# EAGLE library part EFM32G200F64-QFN32 (library EFM32G200F64-QFN32)
The EFM32G offers unmatched performance and ultra low power consumption in both active and sleep modes. EFM32G devices consume as little as 0.6 μA in Stop mode and 180 μA/MHz in Run mode. It also features autonomous peripherals, high overall chip and analog integration, and the performance of the industry standard 32-bit ARM Cortex-M3 processor, making it perfect for battery-powered systems and systems with high-performance, low-energy requirements. Check availability <https://pricing.snapeda.com/parts/EFM32G200F64-QFN32/Silicon%20Labs/view-part?ref=eda>
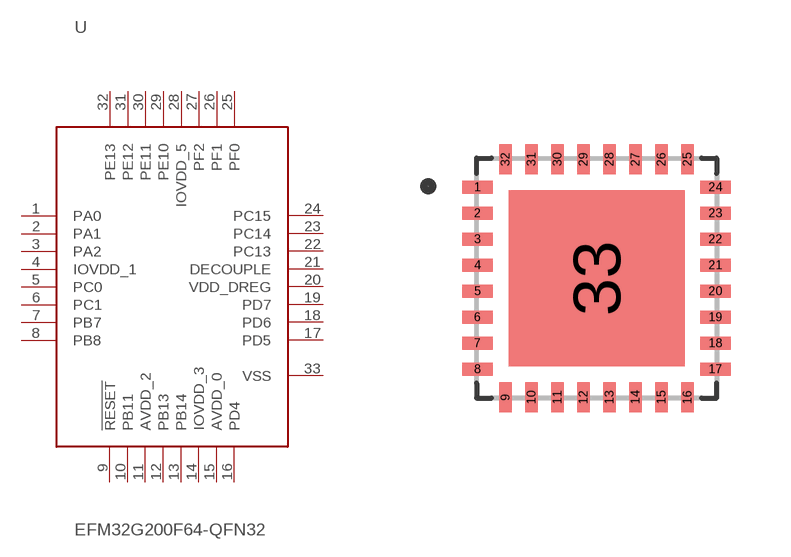
[diagram p0: symbol with the pads of QFN65P600X600X90-33N; footprint QFN65P600X600X90-33N]

Designator prefix U

## EFM32G200F64-QFN32 (AVAILABILITY: In Stock; CHECK_PRICES: https://www.snapeda.com/parts/EFM32G200F64-QFN32/Silicon+Labs/view-part/?ref=eda; DESCRIPTION: ARM® Cortex®-M3 series Microcontroller IC 32-Bit Single-Core 32MHz 64KB (64K x 8) FLASH 32-QFN (6x6); MF: Silicon Labs; MP: EFM32G200F64-QFN32; PACKAGE: QFN-32 Silicon Labs; PRICE: None; SNAPEDA_LINK: https://www.snapeda.com/parts/EFM32G200F64-QFN32/Silicon+Labs/view-part/?ref=snap)  [QFN65P600X600X90-33N]
1  PA0
2  PA1
3  PA2
4  IOVDD_1  pwr
5  PC0
6  PC1
7  PB7
8  PB8
9  !RESET  in
10  PB11
11  AVDD_2  pwr
12  PB13
13  PB14
14  IOVDD_3  pwr
15  AVDD_0  pwr
16  PD4
17  PD5
18  PD6
19  PD7
20  VDD_DREG  pwr
21  DECOUPLE  out
22  PC13
23  PC14
24  PC15
25  PF0
26  PF1
27  PF2
28  IOVDD_5  pwr
29  PE10
30  PE11
31  PE12
32  PE13
33  VSS  pwr

## Footprint QFN65P600X600X90-33N (pad centres in mm)
smd 0.76 x 0.32: 1 -2.975,2.275; 2 -2.975,1.625; 3 -2.975,0.975; 4 -2.975,0.325; 5 -2.975,-0.325; 6 -2.975,-0.975; 7 -2.975,-1.625; 8 -2.975,-2.275; 17 2.975,-2.275; 18 2.975,-1.625; 19 2.975,-0.975; 20 2.975,-0.325; 21 2.975,0.325; 22 2.975,0.975; 23 2.975,1.625; 24 2.975,2.275
smd 0.32 x 0.76: 9 -2.275,-2.975; 10 -1.625,-2.975; 11 -0.975,-2.975; 12 -0.325,-2.975; 13 0.325,-2.975; 14 0.975,-2.975; 15 1.625,-2.975; 16 2.275,-2.975; 25 2.275,2.975; 26 1.625,2.975; 27 0.975,2.975; 28 0.325,2.975; 29 -0.325,2.975; 30 -0.975,2.975; 31 -1.625,2.975; 32 -2.275,2.975
smd 4.4 x 4.4: 33 0,0